# Altium schematic symbol library 1.11 - 通讯接口芯片.SchLib: 4 symbols
Pins are listed as number, name and electrical type; pins without a type are passive.

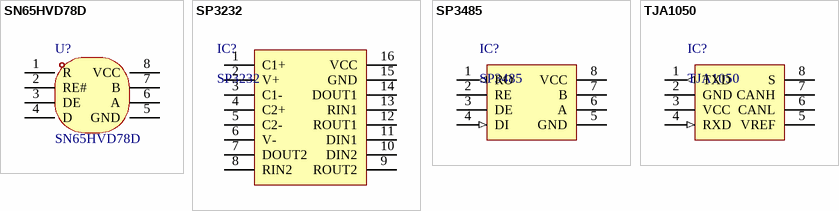
[diagram p0: symbols SN65HVD78D to TJA1050]

## SN65HVD78D
designator U?
RS485芯片; Manufacturer: TI(德州仪器); Add into BOM: yes; Types: 收发器; Number of Driver: 1; Supply Voltage: 3V~3.6V; Data Rate: 50Mbps; Symbol: SN65HVD78D; Device: SN65HVD78D; LCSC Part Name: 具有IECESD保护的SN65HVD7x3.3V电源RS-485; Supplier Part: C1544088; Manufacturer Part: SN65HVD78D; Supplier Footprint: SOIC-8; JLCPCB Part Class: 扩展库; Datasheet: https://www.ti.com/cn/lit/gpn/sn65hvd75; Supplier: LCSC; Convert to PCB: yes; Number of receiver: 1; Operating Temperature: -40℃~+125℃; BOM名称: RS485芯片
footprint SOIC-8_L4.9-W3.8-P1.27-LS6.0-BL
pins: 1 R, 2 RE#, 3 DE, 4 D, 5 GND, 6 A, 7 B, 8 VCC

## SP3232
designator IC?
RS232通讯芯片; 版权归属: 封装库来自淘宝 ID：黄晶宝石; BOM名称: RS232通讯芯片; 学习资源: https://shop463601444.taobao.com
footprint DIP16-300 (19.3*7.6*3.8(长宽高）)
footprint SOP16_L (10.3*6.2*1.8mm（长宽高）)
footprint SOP16_N (10.3*6.2*1.8mm（长宽高）)
footprint SOP16_M (10.3*6.2*1.8mm（长宽高）)
footprint TSSOP16_L (5*6.4*1mm（长宽高）)
footprint TSSOP16_M (5*6.4*1mm（长宽高）)
footprint TSSOP16_N (5*6.4*1mm（长宽高）)
pins: 1 C1+, 2 V+, 3 C1-, 4 C2+, 5 C2-, 6 V-, 7 DOUT2, 8 RIN2, 9 ROUT2, 10 DIN2, 11 DIN1, 12 ROUT1, 13 RIN1, 14 DOUT1, 15 GND, 16 VCC

## SP3485
designator IC?
RS485总线收发芯片; 版权归属: 封装库来自淘宝 ID：黄晶宝石; BOM名称: RS485总线收发芯片; 学习资源: https://shop463601444.taobao.com
footprint SOP8_L (5*6*1.8mm（长宽高）)
footprint SOP8_N (5*6*1.8mm（长宽高）)
footprint SOP8_M (5*6*1.8mm（长宽高）)
pins: 1 RO (out), 2 RE, 3 DE, 4 DI (in), 5 GND, 6 A, 7 B, 8 VCC

## TJA1050
designator IC?
CAN总线收发芯片; 版权归属: 封装库来自淘宝 ID：黄晶宝石; BOM名称: CAN总线收发芯片; 学习资源: https://shop463601444.taobao.com
footprint SOP8_L (5*6*1.8mm（长宽高）)
footprint SOP8_N (5*6*1.8mm（长宽高）)
footprint SOP8_M (5*6*1.8mm（长宽高）)
pins: 1 TXD (out), 2 GND, 3 VCC, 4 RXD (in), 5 VREF, 6 CANL, 7 CANH, 8 S